# Altium footprint library 中频收发.PcbLib: 31 footprints (part 2 of 2)
Each footprint in its own frame and in the unit in brackets; x right, y up, seen from the top. Pads: shape width x height; smd on the part's side, far side on the other; paste and mask are expansions set on the pad; w line width, h text height; cw(c..) or ccw(c..) is an arc to the next point about the centre after c.
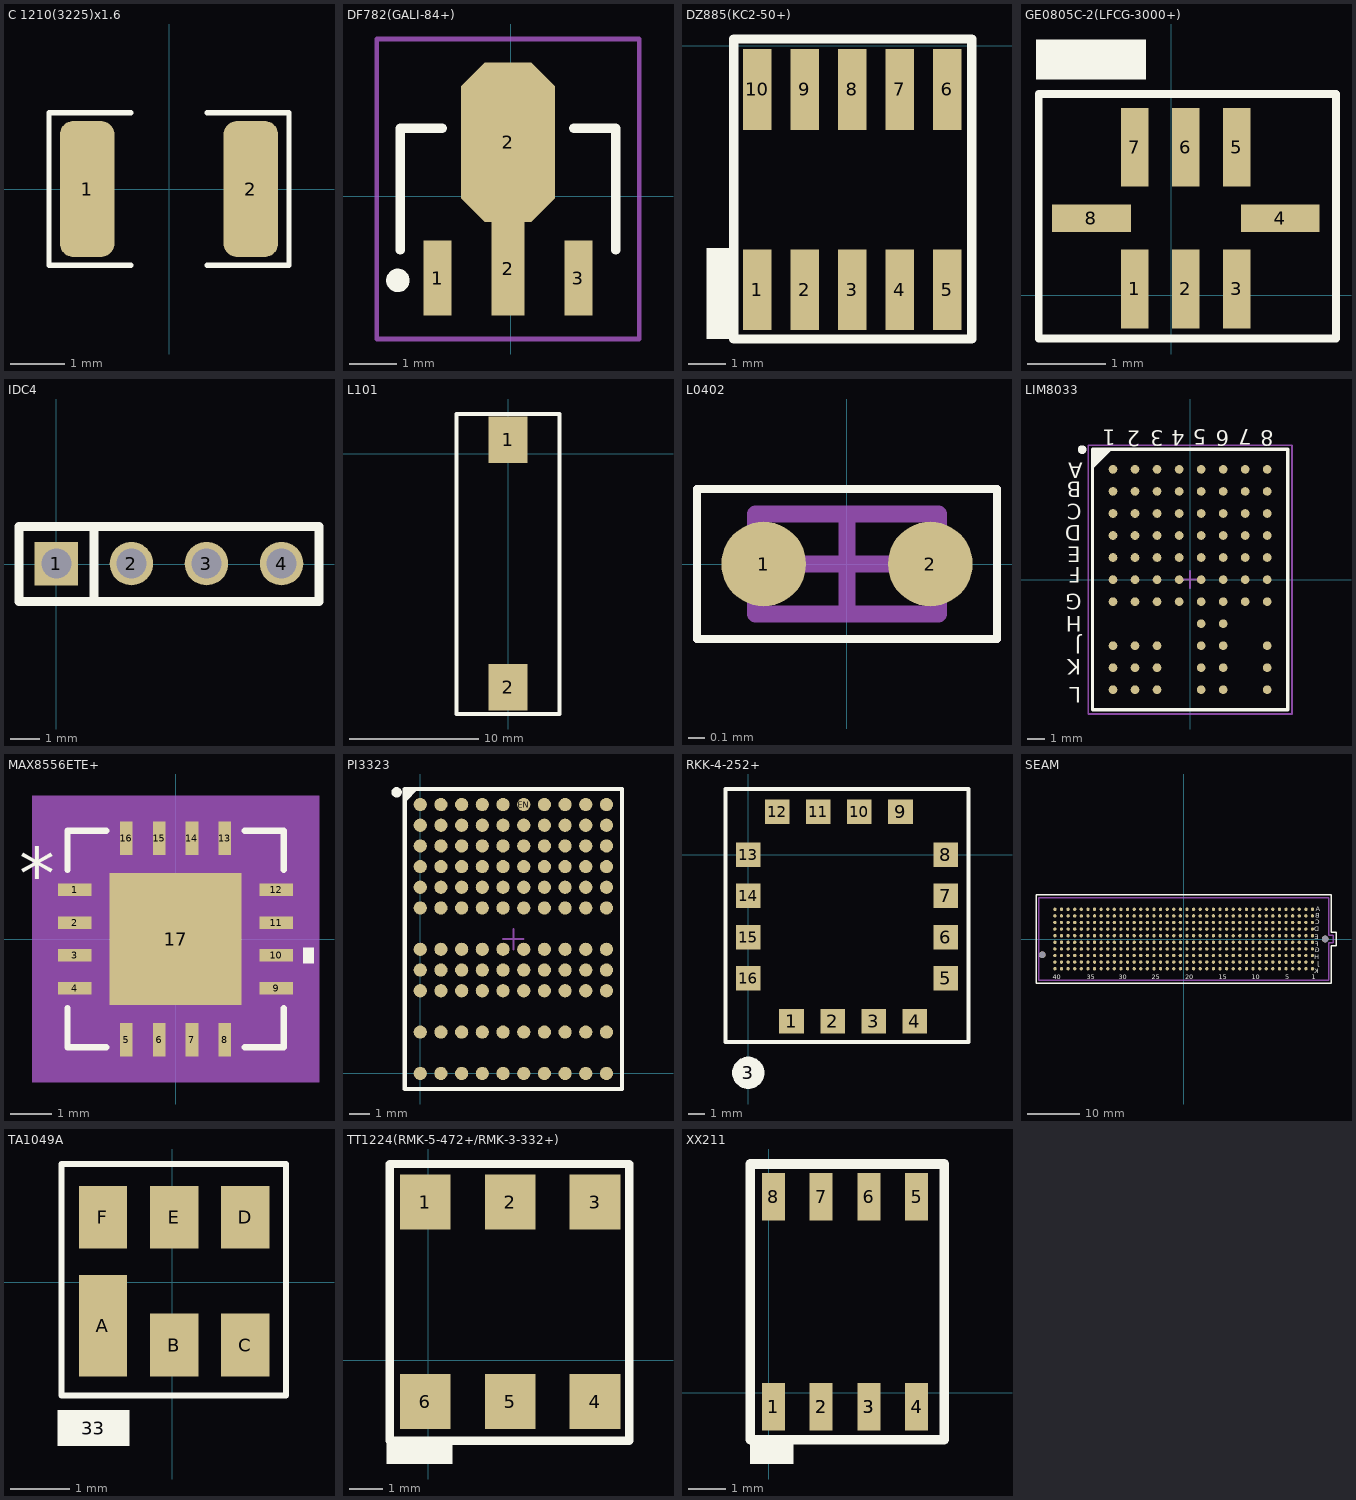
[diagram p1: the footprints below, top view; thin cyan lines are the x and y axes]

## C 1210(3225)x1.6 [mm]
height 1.6
pads (2):
  rrect50% 1x2.5 smd: 1(-1.5,0) 2(1.5,0)
Top Overlay:
  lines w0.1: -0.7,-1.4 -2.2,-1.4 -2.2,1.4 -0.7,1.4 ; 0.7,-1.4 2.2,-1.4 2.2,1.4 0.7,1.4
3D body "Cap 1210(3225)x160N.STEP": height 1.61, standoff 0, extent -1.6,-1.25 1.6,1.25

## DF782(GALI-84+) [mm]
pads (4):
  rect 0.6x1.6 smd mask+0.02: 1(-1.559,-1.741) 3(1.441,-1.741)
  rect 0.7x2 smd mask+0.02: 2(-0.059,-1.541)
  oct 2x3.4 smd mask+0.02: 2(-0.059,1.159)
Top Overlay:
  circle w0.25: c-2.409,-1.791 r0.125
  lines w0.2: -2.359,-1.141 -2.359,1.459 -1.459,1.459 ; 1.341,1.459 2.241,1.459 2.241,-1.141
Mechanical 13:
  lines w0.1: -2.359,-1.141 -2.359,1.459 ; 2.241,-1.141 2.241,1.459
Mechanical 15:
  lines w0.1: -0.559,0.159 0.441,0.159 ; -0.059,-0.341 -0.059,0.659 ; -2.859,-3.041 -2.859,3.359 2.741,3.359 2.741,-3.041 -2.859,-3.041
3D body: height 1.6, standoff 0, extent -2.359,-1.141 2.241,1.459

## DZ885(KC2-50+) [mm]
pads (10):
  rect 0.76x2.16 smd: 1(6.26,-6.53) 2(7.53,-6.53) 3(8.8,-6.53) 4(10.07,-6.53) 5(11.34,-6.53) 6(11.34,-1.17) 7(10.07,-1.17) 8(8.8,-1.17) 9(7.53,-1.17) 10(6.26,-1.17)
Top Overlay:
  rectangle: 4.9,-7.85 5.63,-5.42
  lines w0.254: 5.63,-7.85 12,-7.85 12,0.18 5.63,0.18 5.63,-7.85

## GE0805C-2(LFCG-3000+) [mm]
pads (8):
  rect 0.35x1 smd mask+0.05: 1(-0.465,0.078) 2(0.185,0.078) 3(0.835,0.078) 5(0.835,1.878) 6(0.185,1.878) 7(-0.465,1.878)
  rect 1x0.35 smd mask+0.05: 4(1.385,0.978) 8(-1.015,0.978)
Top Overlay:
  rectangle: -1.72,2.74 -0.32,3.25
  lines w0.1: -1.685,-0.552 -1.685,2.558 2.095,2.558 2.095,-0.552 -1.685,-0.552

## IDC4 [mil]
height 49.21
pads (4):
  rect 58x58 hole 40: 1(0.1,0.52)
  round 58 hole 40: 2(100.1,0.52) 3(200.1,0.52) 4(300.1,0.52)
Top Overlay:
  lines w12: 50,50 50.4,-50 ; -49.6,-50 -49.6,50 350,50 350,-50 -49.6,-50

## L101 [mm]
height 0.8
pads (2):
  rect 3x3.6 smd: 1(0,1.067) 2(0,-18.133)
Top Overlay:
  lines w0.3: -4,-20.193 4,-20.193 4,3.067 -4,3.067 -4,-20.193

## L0402 [mil]
height 11.81
pads (2):
  round 20 smd: 1(-19.68,0) 2(19.68,0)
Top Overlay:
  lines w1.97: -35.43,-17.72 -35.43,17.72 35.43,17.72 35.43,-17.72 -35.43,-17.72
Mechanical 13:
  lines w3.94: -21.65,-11.81 21.65,-11.81 21.65,11.81 -21.65,11.81 -21.65,-11.81
Mechanical 15:
  lines w1.97: -35.43,-17.72 -35.43,17.72 35.43,17.72 35.43,-17.72 -35.43,-17.72
  lines w3.94: -9.84,0 9.84,0 ; 0,-9.84 0,9.84
3D body "0402.STEP": height 19.68, standoff -0.11, extent -19.69,-9.84 19.69,9.84

## LIM8033 [mm]
pads (76):
  round 0.5 smd: A1(-4.445,6.35) A2(-3.175,6.35) A3(-1.905,6.35) A4(-0.635,6.35) A5(0.635,6.35) A6(1.905,6.35) A7(3.175,6.35) A8(4.445,6.35) B1(-4.445,5.08) B2(-3.175,5.08) B3(-1.905,5.08) B4(-0.635,5.08) B5(0.635,5.08) B6(1.905,5.08) B7(3.175,5.08) B8(4.445,5.08) C1(-4.445,3.81) C2(-3.175,3.81) C3(-1.905,3.81) C4(-0.635,3.81) C5(0.635,3.81) C6(1.905,3.81) C7(3.175,3.81) C8(4.445,3.81) D1(-4.445,2.54) D2(-3.175,2.54) D3(-1.905,2.54) D4(-0.635,2.54) D5(0.635,2.54) D6(1.905,2.54) D7(3.175,2.54) D8(4.445,2.54) E1(-4.445,1.27) E2(-3.175,1.27) E3(-1.905,1.27) E4(-0.635,1.27) E5(0.635,1.27) E6(1.905,1.27) E7(3.175,1.27) E8(4.445,1.27) F1(-4.445,0) F2(-3.175,0) F3(-1.905,0) F4(-0.635,0) F5(0.635,0) F6(1.905,0) F7(3.175,0) F8(4.445,0) G1(-4.445,-1.27) G2(-3.175,-1.27) G3(-1.905,-1.27) G4(-0.635,-1.27) G5(0.635,-1.27) G6(1.905,-1.27) G7(3.175,-1.27) G8(4.445,-1.27) H5(0.635,-2.54) H6(1.905,-2.54) J1(-4.445,-3.81) J2(-3.175,-3.81) J3(-1.905,-3.81) J5(0.635,-3.81) J6(1.905,-3.81) J8(4.445,-3.81) K1(-4.445,-5.08) K2(-3.175,-5.08) K3(-1.905,-5.08) K5(0.635,-5.08) K6(1.905,-5.08) K8(4.445,-5.08) L1(-4.445,-6.35) L2(-3.175,-6.35) L3(-1.905,-6.35) L5(0.635,-6.35) L6(1.905,-6.35) L8(4.445,-6.35)
Top Overlay:
  circle w0.25: c-6.221,7.493 r0.125
  region: -4.625,7.5 -5.625,6.5 -5.625,7.5
  lines w0.2: -5.625,6.5 -4.625,7.5 ; -5.625,-7.5 5.625,-7.5 5.625,7.5 -5.625,7.5 -5.625,-7.5
  text "A" at -6.184,6.733 h0.89
  text "B" at -6.263,5.635 h0.89
  text "C" at -6.231,4.364 h0.89
  text "D" at -6.278,3.14 h0.89
  text "E" at -6.31,1.9 h0.89
  text "F" at -6.31,0.708 h0.89
  text "G" at -6.247,-0.814 h0.89
  text "H" at -6.231,-2.101 h0.89
  text "J" at -6.263,-3.387 h0.89
  text "K" at -6.278,-4.596 h0.89
  text "L" at -6.278,-6.196 h0.89
  text "1" at -4.285,8.639 h0.89
  text "2" at -2.886,8.588 h0.89
  text "3" at -1.521,8.622 h0.89
  text "4" at -0.308,8.622 h0.89
  text "5" at 0.923,8.656 h0.89
  text "6" at 2.254,8.622 h0.89
  text "7" at 3.569,8.656 h0.89
  text "8" at 4.816,8.622 h0.89
Mechanical 13:
  lines w0.1: -5.625,-7.5 5.625,-7.5 5.625,7.5 -5.625,7.5 -5.625,-7.5
Mechanical 15:
  lines w0.1: -0.5,0 0.5,0 ; 0,-0.5 0,0.5 ; -5.875,-7.75 5.875,-7.75 5.875,7.75 -5.875,7.75 -5.875,-7.75
3D body: height 4.92, standoff 0.6, extent -5.625,-7.5 5.625,7.5

## MAX8556ETE+ [mm]
pads (17):
  rect 0.808x0.306 smd paste+0 mask+0: 1(-2.449,1.2) 2(-2.449,0.4) 3(-2.449,-0.4) 4(-2.449,-1.2) 9(2.449,-1.2) 10(2.449,-0.4) 11(2.449,0.4) 12(2.449,1.2)
  rect 0.306x0.808 smd paste+0 mask+0: 5(-1.2,-2.449) 6(-0.4,-2.449) 7(0.4,-2.449) 8(1.2,-2.449) 13(1.2,2.449) 14(0.4,2.449) 15(-0.4,2.449) 16(-1.2,2.449)
  rect 3.2x3.2 smd paste-1.587 mask+0: 17(0,0)
Top Overlay:
  region: 3.107,-0.209 3.361,-0.209 3.361,-0.59 3.107,-0.59
  lines w0.152: -2.629,-1.686 -2.629,-2.629 -1.686,-2.629 ; -2.629,1.686 -2.629,2.629 -1.686,2.629 ; 1.686,-2.629 2.629,-2.629 2.629,-1.686 ; 1.686,2.629 2.629,2.629 2.629,1.686
  text "*" at -3.805,0.965 h1.27
Top Paste:
  region: -0.1,1.5 -1.5,1.5 -1.5,0.1 -0.1,0.1
  region: -0.1,-0.1 -1.5,-0.1 -1.5,-1.5 -0.1,-1.5
  region: 1.5,1.5 0.1,1.5 0.1,0.1 1.5,0.1
  region: 1.5,-0.1 0.1,-0.1 0.1,-1.5 1.5,-1.5
Mechanical 5:
  region: 3.488,-3.488 -3.488,-3.488 -3.488,3.488 3.488,3.488
Mechanical 13:
  lines w0.025: -2.502,1.232 -1.232,2.502 ; -2.553,-1.378 -2.553,-1.022 -2.502,-1.022 -2.502,-1.378 -2.553,-1.378 ; -2.553,-0.578 -2.553,-0.222 -2.502,-0.222 -2.502,-0.578 -2.553,-0.578 ; -2.553,0.222 -2.553,0.578 -2.502,0.578 -2.502,0.222 -2.553,0.222 ; -2.553,1.022 -2.553,1.378 -2.502,1.378 -2.502,1.022 -2.553,1.022 ; -2.502,-2.502 2.502,-2.502 2.502,2.502 -2.502,2.502 -2.502,-2.502 ; -1.378,-2.553 -1.378,-2.502 -1.022,-2.502 -1.022,-2.553 -1.378,-2.553 ; -1.378,2.502 -1.022,2.502 -1.022,2.553 -1.378,2.553 -1.378,2.502 ; -0.578,-2.553 -0.578,-2.502 -0.222,-2.502 -0.222,-2.553 -0.578,-2.553 ; -0.578,2.502 -0.222,2.502 -0.222,2.553 -0.578,2.553 -0.578,2.502 ; 0.222,-2.553 0.222,-2.502 0.578,-2.502 0.578,-2.553 0.222,-2.553 ; 0.222,2.502 0.578,2.502 0.578,2.553 0.222,2.553 0.222,2.502 ; 1.022,-2.553 1.022,-2.502 1.378,-2.502 1.378,-2.553 1.022,-2.553 ; 1.022,2.502 1.378,2.502 1.378,2.553 1.022,2.553 1.022,2.502 ; 2.502,-1.378 2.502,-1.022 2.553,-1.022 2.553,-1.378 2.502,-1.378 ; 2.502,-0.578 2.502,-0.222 2.553,-0.222 2.553,-0.578 2.502,-0.578 ; 2.502,0.222 2.502,0.578 2.553,0.578 2.553,0.222 2.502,0.222 ; 2.502,1.022 2.502,1.378 2.553,1.378 2.553,1.022 2.502,1.022
  text "*" at -2.362,0.965 h1.27
Mechanical 15:
  region: -1.607,-2.756 -2.756,-2.756 -2.756,-1.607 -3.107,-1.607 -3.107,1.607 -2.756,1.607 -2.756,2.756 -1.607,2.756 -1.607,3.107 1.607,3.107 1.607,2.756 2.756,2.756 2.756,1.607 3.107,1.607 3.107,-1.607 2.756,-1.607 2.756,-2.756 1.607,-2.756 1.607,-3.107 -1.607,-3.107
  lines w0.152: -3.107,-1.607 -2.756,-1.607 -2.756,-2.756 -1.607,-2.756 -1.607,-3.107 1.607,-3.107 1.607,-2.756 2.756,-2.756 2.756,-1.607 3.107,-1.607 3.107,1.607 2.756,1.607 2.756,2.756 1.607,2.756 1.607,3.107 -1.607,3.107 -1.607,2.756 -2.756,2.756 -2.756,1.607 -3.107,1.607 -3.107,-1.607
3D body "21-0140_T1655+3_MXM.step": height 0.81, standoff 0, extent -2.553,-2.553 2.553,2.553

## PI3323 [mm] "BGA110"
height 1.2
pads (110):
  round 0.64 smd: COMP(1,13) EAIN(0,12) EAO(0,13) EN(5,13) PGND(0,2) PGND(1,2) PGND(1,9) PGND(2,2) PGND(2,8) PGND(2,9) PGND(2,10) PGND(3,2) PGND(3,8) PGND(3,9) PGND(3,10) PGND(4,2) PGND(4,8) PGND(4,9) PGND(4,10) PGND(5,2) PGND(5,8) PGND(5,9) PGND(5,10) PGND(5,11) PGND(5,12) PGND(6,2) PGND(6,8) PGND(6,9) PGND(6,10) PGND(6,11) PGND(6,12) PGND(7,2) PGND(7,8) PGND(7,9) PGND(7,10) PGND(7,11) PGND(7,12) PGND(8,2) PGND(8,8) PGND(8,9) PGND(8,10) PGND(8,11) PGND(8,12) PGND(9,2) PGND(9,8) PWRGD(6,13) SGND(1,10) SGND(1,11) SGND(1,12) SGND(2,11) SGND(2,12) SGND(3,11) SGND(3,12) SGND(3,13) SGND(4,11) SGND(4,12) SYNCI(9,10) SYNCO(9,11) TEST(4,13) TEST(7,13) TEST(8,13) TEST(9,12) TEST(9,13) TRK(2,13) VDIFF(0,11) VDR(9,9) VIN(0,4) VIN(0,5) VIN(0,6) VIN(1,4) VIN(1,5) VIN(1,6) VIN(2,4) VIN(2,5) VIN(2,6) VIN(3,4) VIN(3,5) VIN(3,6) VIN(4,4) VIN(4,5) VIN(4,6) VIN(5,4) VIN(5,5) VIN(5,6) VIN(6,4) VIN(6,5) VIN(6,6) VIN(7,4) VIN(7,5) VIN(7,6) VIN(8,4) VIN(8,5) VIN(8,6) VIN(9,4) VIN(9,5) VIN(9,6) VOUT(0,8) VOUT(1,8) VS1(0,0) VS1(1,0) VS1(2,0) VS1(3,0) VS1(4,0) VS1(5,0) VS1(6,0) VS1(7,0) VS1(8,0) VS1(9,0) VSN(0,10) VSP(0,9)
Top Overlay:
  circle w0.25: c-1.143,13.589 r0.125
  region: -0.093,13.75 -0.699,13.144 -0.699,13.75
  lines w0.2: -0.75,-0.75 -0.75,13.75 9.75,13.75 9.75,-0.75 -0.75,-0.75
Mechanical 13:
  lines w0.1: -0.757,-0.75 9.75,-0.75 9.75,13.75 -0.757,13.75 -0.757,-0.75
Mechanical 15:
  lines w0.05: -0.755,-0.75 9.75,-0.75 9.75,13.75 -0.755,13.75 -0.755,-0.75
  lines w0.1: 4,6.5 5,6.5 ; 4.5,5.985 4.5,6.985
3D body: height 1.2, standoff 0, extent -0.758,-0.75 9.75,13.75

## RKK-4-252+ [mm]
pads (17):
  rect 1.52x1.52 smd: 1(2.67,-10.29) 2(5.21,-10.29) 3(7.75,-10.29) 4(10.29,-10.29) 5(12.2,-7.62) 6(12.2,-5.08) 7(12.2,-2.54) 8(12.2,0) 9(9.4,2.67) 10(6.86,2.67) 11(4.32,2.67) 12(1.78,2.67) 13(0,0) 14(0,-2.54) 15(0,-5.08) 16(0,-7.62)
  round 2 on Top Overlay: 3(0,-13.462)
Top Overlay:
  lines w0.254: -1.397,-11.557 -1.397,4.064 13.589,4.064 13.589,-11.557 -1.397,-11.557

## SEAM [mm]
pads (402):
  round 1.27 hole 1.27 unplated: 401(27.191,0) 402(-27.191,-3.048)
  round 0.64 smd: A1(24.765,5.715) A2(23.495,5.715) A3(22.225,5.715) A4(20.955,5.715) A5(19.685,5.715) A6(18.415,5.715) A7(17.145,5.715) A8(15.875,5.715) A9(14.605,5.715) A10(13.335,5.715) A11(12.065,5.715) A12(10.795,5.715) A13(9.525,5.715) A14(8.255,5.715) A15(6.985,5.715) A16(5.715,5.715) A17(4.445,5.715) A18(3.175,5.715) A19(1.905,5.715) A20(0.635,5.715) A21(-0.635,5.715) A22(-1.905,5.715) A23(-3.175,5.715) A24(-4.445,5.715) A25(-5.715,5.715) A26(-6.985,5.715) A27(-8.255,5.715) A28(-9.525,5.715) A29(-10.795,5.715) A30(-12.065,5.715) A31(-13.335,5.715) A32(-14.605,5.715) A33(-15.875,5.715) A34(-17.145,5.715) A35(-18.415,5.715) A36(-19.685,5.715) A37(-20.955,5.715) A38(-22.225,5.715) A39(-23.495,5.715) A40(-24.765,5.715) B1(24.765,4.445) B2(23.495,4.445) B3(22.225,4.445) B4(20.955,4.445) B5(19.685,4.445) B6(18.415,4.445) B7(17.145,4.445) B8(15.875,4.445) B9(14.605,4.445) B10(13.335,4.445) B11(12.065,4.445) B12(10.795,4.445) B13(9.525,4.445) B14(8.255,4.445) B15(6.985,4.445) B16(5.715,4.445) B17(4.445,4.445) B18(3.175,4.445) B19(1.905,4.445) B20(0.635,4.445) B21(-0.635,4.445) B22(-1.905,4.445) B23(-3.175,4.445) B24(-4.445,4.445) B25(-5.715,4.445) B26(-6.985,4.445) B27(-8.255,4.445) B28(-9.525,4.445) B29(-10.795,4.445) B30(-12.065,4.445) B31(-13.335,4.445) B32(-14.605,4.445) B33(-15.875,4.445) B34(-17.145,4.445) B35(-18.415,4.445) B36(-19.685,4.445) B37(-20.955,4.445) B38(-22.225,4.445) B39(-23.495,4.445) B40(-24.765,4.445) C1(24.765,3.175) C2(23.495,3.175) C3(22.225,3.175) C4(20.955,3.175) C5(19.685,3.175) C6(18.415,3.175) C7(17.145,3.175) C8(15.875,3.175) C9(14.605,3.175) C10(13.335,3.175) C11(12.065,3.175) C12(10.795,3.175) C13(9.525,3.175) C14(8.255,3.175) C15(6.985,3.175) C16(5.715,3.175) C17(4.445,3.175) C18(3.175,3.175) C19(1.905,3.175) C20(0.635,3.175) C21(-0.635,3.175) C22(-1.905,3.175) C23(-3.175,3.175) C24(-4.445,3.175) C25(-5.715,3.175) C26(-6.985,3.175) C27(-8.255,3.175) C28(-9.525,3.175) C29(-10.795,3.175) C30(-12.065,3.175) C31(-13.335,3.175) C32(-14.605,3.175) C33(-15.875,3.175) C34(-17.145,3.175) C35(-18.415,3.175) C36(-19.685,3.175) C37(-20.955,3.175) C38(-22.225,3.175) C39(-23.495,3.175) C40(-24.765,3.175) D1(24.765,1.905) D2(23.495,1.905) D3(22.225,1.905) D4(20.955,1.905) D5(19.685,1.905) D6(18.415,1.905) D7(17.145,1.905) D8(15.875,1.905) D9(14.605,1.905) D10(13.335,1.905) D11(12.065,1.905) D12(10.795,1.905) D13(9.525,1.905) D14(8.255,1.905) D15(6.985,1.905) D16(5.715,1.905) D17(4.445,1.905) D18(3.175,1.905) D19(1.905,1.905) D20(0.635,1.905) D21(-0.635,1.905) D22(-1.905,1.905) D23(-3.175,1.905) D24(-4.445,1.905) D25(-5.715,1.905) D26(-6.985,1.905) D27(-8.255,1.905) D28(-9.525,1.905) D29(-10.795,1.905) D30(-12.065,1.905) D31(-13.335,1.905) D32(-14.605,1.905) D33(-15.875,1.905) D34(-17.145,1.905) D35(-18.415,1.905) D36(-19.685,1.905) D37(-20.955,1.905) D38(-22.225,1.905) D39(-23.495,1.905) D40(-24.765,1.905) E1(24.765,0.635) E2(23.495,0.635) E3(22.225,0.635) E4(20.955,0.635) E5(19.685,0.635) E6(18.415,0.635) E7(17.145,0.635) E8(15.875,0.635) E9(14.605,0.635) E10(13.335,0.635) E11(12.065,0.635) E12(10.795,0.635) E13(9.525,0.635) E14(8.255,0.635) E15(6.985,0.635) E16(5.715,0.635) E17(4.445,0.635) E18(3.175,0.635) E19(1.905,0.635) E20(0.635,0.635) E21(-0.635,0.635) E22(-1.905,0.635) E23(-3.175,0.635) E24(-4.445,0.635) E25(-5.715,0.635) E26(-6.985,0.635) E27(-8.255,0.635) E28(-9.525,0.635) E29(-10.795,0.635) E30(-12.065,0.635) E31(-13.335,0.635) E32(-14.605,0.635) E33(-15.875,0.635) E34(-17.145,0.635) E35(-18.415,0.635) E36(-19.685,0.635) E37(-20.955,0.635) E38(-22.225,0.635) E39(-23.495,0.635) E40(-24.765,0.635) F1(24.765,-0.635) F2(23.495,-0.635) F3(22.225,-0.635) F4(20.955,-0.635) F5(19.685,-0.635) F6(18.415,-0.635) F7(17.145,-0.635) F8(15.875,-0.635) F9(14.605,-0.635) F10(13.335,-0.635) F11(12.065,-0.635) F12(10.795,-0.635) F13(9.525,-0.635) F14(8.255,-0.635) F15(6.985,-0.635) F16(5.715,-0.635) F17(4.445,-0.635) F18(3.175,-0.635) F19(1.905,-0.635) F20(0.635,-0.635) F21(-0.635,-0.635) F22(-1.905,-0.635) F23(-3.175,-0.635) F24(-4.445,-0.635) F25(-5.715,-0.635) F26(-6.985,-0.635) F27(-8.255,-0.635) F28(-9.525,-0.635) F29(-10.795,-0.635) F30(-12.065,-0.635) F31(-13.335,-0.635) F32(-14.605,-0.635) F33(-15.875,-0.635) F34(-17.145,-0.635) F35(-18.415,-0.635) F36(-19.685,-0.635) F37(-20.955,-0.635) F38(-22.225,-0.635) F39(-23.495,-0.635) F40(-24.765,-0.635) G1(24.765,-1.905) G2(23.495,-1.905) G3(22.225,-1.905) G4(20.955,-1.905) G5(19.685,-1.905) G6(18.415,-1.905) G7(17.145,-1.905) G8(15.875,-1.905) G9(14.605,-1.905) G10(13.335,-1.905) G11(12.065,-1.905) G12(10.795,-1.905) G13(9.525,-1.905) G14(8.255,-1.905) G15(6.985,-1.905) G16(5.715,-1.905) G17(4.445,-1.905) G18(3.175,-1.905) G19(1.905,-1.905) G20(0.635,-1.905) G21(-0.635,-1.905) G22(-1.905,-1.905) G23(-3.175,-1.905) G24(-4.445,-1.905) G25(-5.715,-1.905) G26(-6.985,-1.905) G27(-8.255,-1.905) G28(-9.525,-1.905) G29(-10.795,-1.905) G30(-12.065,-1.905) G31(-13.335,-1.905) G32(-14.605,-1.905) G33(-15.875,-1.905) G34(-17.145,-1.905) G35(-18.415,-1.905) G36(-19.685,-1.905) G37(-20.955,-1.905) G38(-22.225,-1.905) G39(-23.495,-1.905) G40(-24.765,-1.905) H1(24.765,-3.175) H2(23.495,-3.175) H3(22.225,-3.175) H4(20.955,-3.175) H5(19.685,-3.175) H6(18.415,-3.175) H7(17.145,-3.175) H8(15.875,-3.175) H9(14.605,-3.175) H10(13.335,-3.175) H11(12.065,-3.175) H12(10.795,-3.175) H13(9.525,-3.175) H14(8.255,-3.175) H15(6.985,-3.175) H16(5.715,-3.175) H17(4.445,-3.175) H18(3.175,-3.175) H19(1.905,-3.175) H20(0.635,-3.175) H21(-0.635,-3.175) H22(-1.905,-3.175) H23(-3.175,-3.175) H24(-4.445,-3.175) H25(-5.715,-3.175) H26(-6.985,-3.175) H27(-8.255,-3.175) H28(-9.525,-3.175) H29(-10.795,-3.175) H30(-12.065,-3.175) H31(-13.335,-3.175) H32(-14.605,-3.175) H33(-15.875,-3.175) H34(-17.145,-3.175) H35(-18.415,-3.175) H36(-19.685,-3.175) H37(-20.955,-3.175) H38(-22.225,-3.175) H39(-23.495,-3.175) H40(-24.765,-3.175) J1(24.765,-4.445) J2(23.495,-4.445) J3(22.225,-4.445) J4(20.955,-4.445) J5(19.685,-4.445) J6(18.415,-4.445) J7(17.145,-4.445) J8(15.875,-4.445) J9(14.605,-4.445) J10(13.335,-4.445) J11(12.065,-4.445) J12(10.795,-4.445) J13(9.525,-4.445) J14(8.255,-4.445) J15(6.985,-4.445) J16(5.715,-4.445) J17(4.445,-4.445) J18(3.175,-4.445) J19(1.905,-4.445) J20(0.635,-4.445) J21(-0.635,-4.445) J22(-1.905,-4.445) J23(-3.175,-4.445) J24(-4.445,-4.445) J25(-5.715,-4.445) J26(-6.985,-4.445) J27(-8.255,-4.445) J28(-9.525,-4.445) J29(-10.795,-4.445) J30(-12.065,-4.445) J31(-13.335,-4.445) J32(-14.605,-4.445) J33(-15.875,-4.445) J34(-17.145,-4.445) J35(-18.415,-4.445) J36(-19.685,-4.445) J37(-20.955,-4.445) J38(-22.225,-4.445) J39(-23.495,-4.445) J40(-24.765,-4.445) K1(24.765,-5.715) K2(23.495,-5.715) K3(22.225,-5.715) K4(20.955,-5.715) K5(19.685,-5.715) K6(18.415,-5.715) K7(17.145,-5.715) K8(15.875,-5.715) K9(14.605,-5.715) K10(13.335,-5.715) K11(12.065,-5.715) K12(10.795,-5.715) K13(9.525,-5.715) K14(8.255,-5.715) K15(6.985,-5.715) K16(5.715,-5.715) K17(4.445,-5.715) K18(3.175,-5.715) K19(1.905,-5.715) K20(0.635,-5.715) K21(-0.635,-5.715) K22(-1.905,-5.715) K23(-3.175,-5.715) K24(-4.445,-5.715) K25(-5.715,-5.715) K26(-6.985,-5.715) K27(-8.255,-5.715) K28(-9.525,-5.715) K29(-10.795,-5.715) K30(-12.065,-5.715) K31(-13.335,-5.715) K32(-14.605,-5.715) K33(-15.875,-5.715) K34(-17.145,-5.715) K35(-18.415,-5.715) K36(-19.685,-5.715) K37(-20.955,-5.715) K38(-22.225,-5.715) K39(-23.495,-5.715) K40(-24.765,-5.715)
Top Overlay:
  lines w0.254: -28.397,-8.484 -28.397,8.484 28.397,8.484 28.397,1.27 29.286,1.27 29.286,-1.27 28.397,-1.27 28.397,-8.484 -28.397,-8.484
  text "1" at 24.641,-7.702 h0.89
  text "5" at 19.558,-7.747 h0.89
  text "10" at 13.081,-7.747 h0.89
  text "15" at 6.731,-7.747 h0.89
  text "20" at 0.254,-7.747 h0.89
  text "25" at -6.096,-7.747 h0.89
  text "30" at -12.446,-7.747 h0.89
  text "35" at -18.669,-7.747 h0.89
  text "40" at -25.146,-7.747 h0.89
  text "J" at 26.104,-5.172 h0.89
  text "H" at 26.104,-3.932 h0.89
  text "G" at 26.17,-2.561 h0.89
  text "F" at 26.002,-1.403 h0.89
  text "E" at 25.947,-0.074 h0.89
  text "D" at 26.048,1.475 h0.89
  text "C" at 26.124,2.827 h0.89
  text "K" at 26.013,-6.587 h0.89
  text "B" at 26.147,4.119 h0.89
  text "A" at 26.226,5.346 h0.89
Mechanical 5:
  lines w0.254: -27.889,-7.976 27.889,-7.976 27.889,-0.762 28.778,-0.762 28.778,0.762 27.889,0.762 27.889,7.976 -27.889,7.976 -27.889,-7.976

## TA1049A [mm]
pads (7):
  rect 1.2x0.6 on Top Overlay: 33(-1.32,-2.44)
  rect 0.81x1.7 smd: A(-1.16,-0.725)
  rect 0.81x1.05 smd: B(0.03,-1.05) C(1.22,-1.05) D(1.22,1.09) E(0.03,1.09) F(-1.16,1.09)
Top Overlay:
  lines w0.1: -1.85,-1.89 -1.85,1.98 1.9,1.98 1.9,-1.89 -1.85,-1.89

## TT1224(RMK-5-472+/RMK-3-332+) [mm]
pads (6):
  rect 1.52x1.65 smd: 1(-0.09,4.73) 2(2.45,4.73) 3(4.99,4.73) 4(4.99,-1.24) 5(2.45,-1.24) 6(-0.09,-1.24)
Top Overlay:
  rectangle: -1.25,-3.11 0.73,-2.41
  lines w0.254: -1.16,-2.41 6.02,-2.41 6.02,5.87 -1.16,5.87 -1.16,-2.41

## XX211 [mm]
pads (12):
  rect 0.61x1.27 smd: 1(0.13,-0.37) 1(0.13,-0.37) 2(1.4,-0.37) 2(1.4,-0.37) 3(2.67,-0.37) 3(2.67,-0.37) 4(3.94,-0.37) 4(3.94,-0.37) 5(3.94,5.22) 6(2.67,5.22) 7(1.4,5.22) 8(0.13,5.22)
Top Overlay:
  rectangle: -0.49,-1.89 0.66,-1.25
  lines w0.254: -0.49,-1.25 4.68,-1.25 4.68,6.09 -0.49,6.09 -0.49,-1.25